# Altium schematic symbol library SIGMA.SchLib: 5 symbols
Pins are listed as number, name and electrical type; pins without a type are passive.

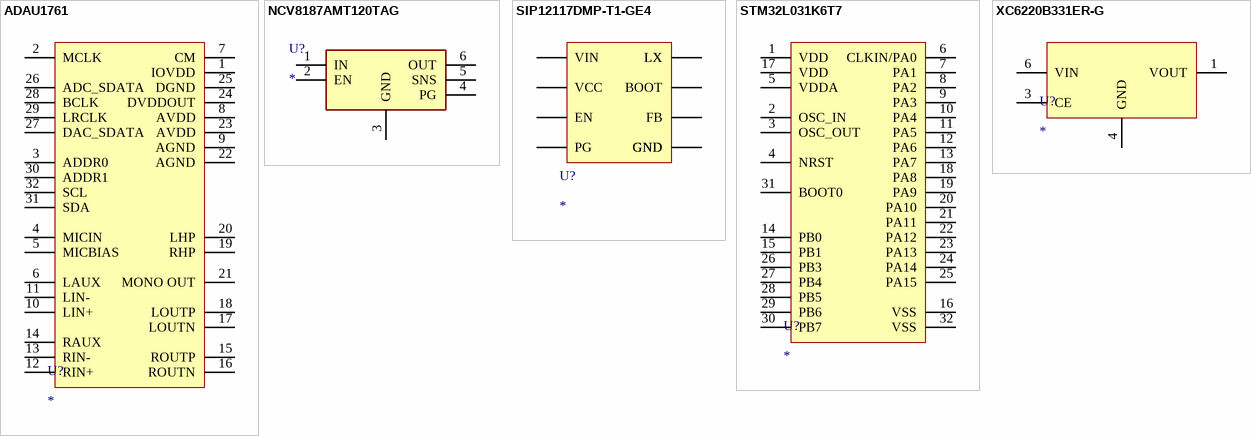
[diagram p0: symbols ADAU1761 to XC6220B331ER-G]

## ADAU1761
designator U?
Interface - CODECs Low Power Codec w/Sigma DSP
footprint LFCSP-32 (SIGMADSP CODEC)
pins: 1 IOVDD, 2 MCLK, 3 ADDR0, 4 MICIN, 5 MICBIAS, 6 LAUX, 7 CM, 8 AVDD, 9 AGND, 10 LIN+, 11 LIN-, 12 RIN+, 13 RIN-, 14 RAUX, 15 ROUTP, 16 ROUTN, 17 LOUTN, 18 LOUTP, 19 RHP, 20 LHP, 21 MONO OUT, 22 AGND, 23 AVDD, 24 DVDDOUT, 25 DGND, 26 ADC_SDATA, 27 DAC_SDATA, 28 BCLK, 29 LRCLK, 30 ADDR1, 31 SDA, 32 SCL

## NCV8187AMT120TAG
designator U?
1.2V LDO; Manufacturer_Name: ON Semiconductor; Manufacturer_Part_Number: NCV8187AMT120TAG; Datasheet Link: https://componentsearchengine.com//NCV8187AMT120TAG.pdf; Height: 0.8mm; Mouser2 Part Number: 863-NCV8187AMT120TAG; Mouser2 Price/Stock: https://www.mouser.com/Search/Refine.aspx?Keyword=863-NCV8187AMT120TAG
footprint WDFN-6
pins: 1 IN, 2 EN, 3 GND, 4 PG, 5 SNS, 6 OUT, 7 GND

## SIP12117DMP-T1-GE4
designator U?
BUCK CONVERTER
footprint DFN-10
pins: 1 FB, 2 VCC, 3 VIN, 4 GND, 5 GND, 6 LX, 7 LX, 8 BOOT, 9 PG, 10 EN, 11 GND

## STM32L031K6T7
designator U?
ARM Microcontrollers - MCU Ultra-low-power Arm Cortex-M0+ MCU 32-Kbytes of Flash , 32 MHz CPU
footprint LQFP-32 (STM32L0)
pins: 1 VDD, 2 OSC_IN, 3 OSC_OUT, 4 NRST, 5 VDDA, 6 CLKIN/PA0, 7 PA1, 8 PA2, 9 PA3, 10 PA4, 11 PA5, 12 PA6, 13 PA7, 14 PB0, 15 PB1, 16 VSS, 17 VDD, 18 PA8, 19 PA9, 20 PA10, 21 PA11, 22 PA12, 23 PA13, 24 PA14, 25 PA15, 26 PB3, 27 PB4, 28 PB5, 29 PB6, 30 PB7, 31 BOOT0, 32 VSS

## XC6220B331ER-G
designator U?
3V3 LDO
footprint XC6220B331ERG
pins: 1 VOUT, 2 VOUT, 3 CE, 4 GND, 5 VIN, 6 VIN, 7 PAD